# EAGLE library part TW-14-03-X-D (library Traficon)
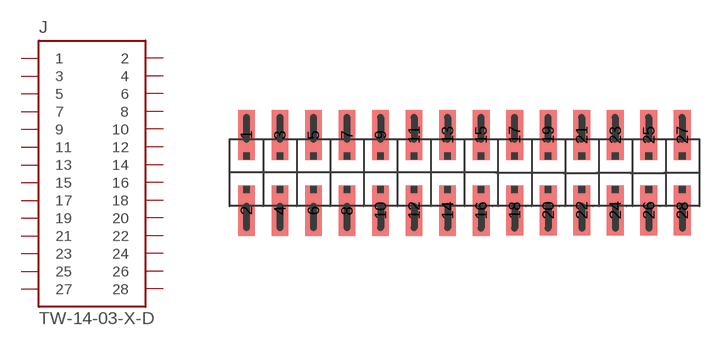
[diagram p192: symbol with the pads of 2MMHEAD2X14; footprint 2MMHEAD2X14]

Designator prefix J

## TW-14-03-X-D  [2MMHEAD2X14]
1  1  pas
2  2  pas
3  3  pas
4  4  pas
5  5  pas
6  6  pas
7  7  pas
8  8  pas
9  9  pas
10  10  pas
11  11  pas
12  12  pas
13  13  pas
14  14  pas
15  15  pas
16  16  pas
17  17
18  18
19  19
20  20
21  21
22  22
23  23
24  24
25  25
26  26
27  27
28  28

## Footprint 2MMHEAD2X14 (pad centres in mm)
smd 1 x 3: 1 -12.988,2.305; 2 -12.988,-2.215; 3 -10.988,2.305; 4 -10.988,-2.215; 5 -8.988,2.305; 6 -8.988,-2.215; 7 -6.988,2.305; 8 -6.988,-2.215; 9 -4.988,2.305; 10 -4.988,-2.215; 11 -2.988,2.305; 12 -2.988,-2.215; 13 -0.988,2.305; 14 -0.988,-2.215; 15 1.012,2.305; 16 1.012,-2.215; 17 3.012,2.305; 18 3.012,-2.195; 19 5.012,2.305; 20 5.012,-2.195; 21 7.018,2.302; 22 7.018,-2.198; 23 9.018,2.302; 24 9.018,-2.198; 25 11.018,2.302; 26 11.018,-2.198; 27 13.018,2.302; 28 13.018,-2.198